# EAGLE library part 80515-N (library micro-siemens)
MICROPROCESSOR/PERIPHERAL DEVICE
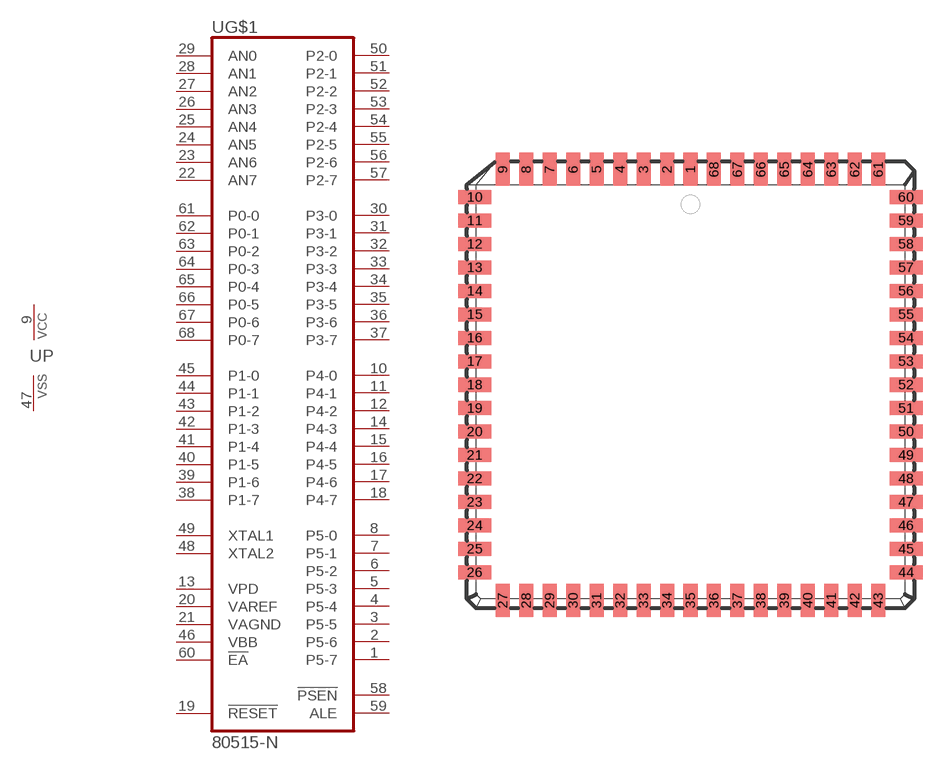
[diagram p10: symbol with the pads of PLCC68; footprint PLCC68]

Designator prefix U; gates G$1=80515-N P=VCCVSS

## 80515-N  [PLCC68]
1  G$1:P5-7
2  G$1:P5-6
3  G$1:P5-5
4  G$1:P5-4
5  G$1:P5-3
6  G$1:P5-2
7  G$1:P5-1
8  G$1:P5-0
9  P:VCC  pwr
10  G$1:P4-0
11  G$1:P4-1
12  G$1:P4-2
13  G$1:VPD  in
14  G$1:P4-3
15  G$1:P4-4
16  G$1:P4-5
17  G$1:P4-6
18  G$1:P4-7
19  G$1:!RESET  in
20  G$1:VAREF  in
21  G$1:VAGND  in
22  G$1:AN7  in
23  G$1:AN6  in
24  G$1:AN5  in
25  G$1:AN4  in
26  G$1:AN3  in
27  G$1:AN2  in
28  G$1:AN1  in
29  G$1:AN0  in
30  G$1:P3-0
31  G$1:P3-1
32  G$1:P3-2
33  G$1:P3-3
34  G$1:P3-4
35  G$1:P3-5
36  G$1:P3-6
37  G$1:P3-7
38  G$1:P1-7
39  G$1:P1-6
40  G$1:P1-5
41  G$1:P1-4
42  G$1:P1-3
43  G$1:P1-2
44  G$1:P1-1
45  G$1:P1-0
46  G$1:VBB  pas
47  P:VSS  pwr
48  G$1:XTAL2  pas
49  G$1:XTAL1  pas
50  G$1:P2-0
51  G$1:P2-1
52  G$1:P2-2
53  G$1:P2-3
54  G$1:P2-4
55  G$1:P2-5
56  G$1:P2-6
57  G$1:P2-7
58  G$1:!PSEN  out
59  G$1:ALE  out
60  G$1:!EA  in
61  G$1:P0-0
62  G$1:P0-1
63  G$1:P0-2
64  G$1:P0-3
65  G$1:P0-4
66  G$1:P0-5
67  G$1:P0-6
68  G$1:P0-7

## Footprint PLCC68 (pad centres in mm)
PLASTIC LEADED CHIP CARRIER square
smd 0.76 x 1.8: 1 0,11.67; 2 -1.27,11.67; 3 -2.54,11.67; 4 -3.81,11.67; 5 -5.08,11.67; 6 -6.35,11.67; 7 -7.62,11.67; 8 -8.89,11.67; 9 -10.16,11.67; 27 -10.16,-11.67; 28 -8.89,-11.67; 29 -7.62,-11.67; 30 -6.35,-11.67; 31 -5.08,-11.67; 32 -3.81,-11.67; 33 -2.54,-11.67; 34 -1.27,-11.67; 35 0,-11.67; 36 1.27,-11.67; 37 2.54,-11.67; 38 3.81,-11.67; 39 5.08,-11.67; 40 6.35,-11.67; 41 7.62,-11.67; 42 8.89,-11.67; 43 10.16,-11.67; 61 10.16,11.67; 62 8.89,11.67; 63 7.62,11.67; 64 6.35,11.67; 65 5.08,11.67; 66 3.81,11.67; 67 2.54,11.67; 68 1.27,11.67
smd 1.8 x 0.76: 10 -11.67,10.16; 11 -11.67,8.89; 12 -11.67,7.62; 13 -11.67,6.35; 14 -11.67,5.08; 15 -11.67,3.81; 16 -11.67,2.54; 17 -11.67,1.27; 18 -11.67,0; 19 -11.67,-1.27; 20 -11.67,-2.54; 21 -11.67,-3.81; 22 -11.67,-5.08; 23 -11.67,-6.35; 24 -11.67,-7.62; 25 -11.67,-8.89; 26 -11.67,-10.16; 44 11.67,-10.16; 45 11.67,-8.89; 46 11.67,-7.62; 47 11.67,-6.35; 48 11.67,-5.08; 49 11.67,-3.81; 50 11.67,-2.54; 51 11.67,-1.27; 52 11.67,0; 53 11.67,1.27; 54 11.67,2.54; 55 11.67,3.81; 56 11.67,5.08; 57 11.67,6.35; 58 11.67,7.62; 59 11.67,8.89; 60 11.67,10.16